# EAGLE library part USB-A-FEMALE (library my_con)
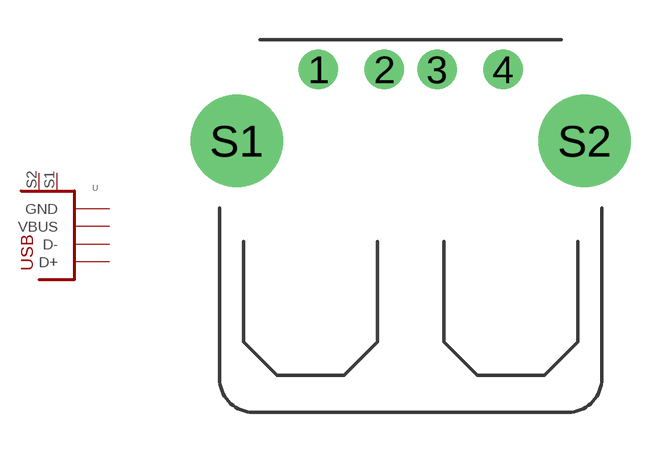
[diagram p5: symbol with the pads of USB-TYPE-A-FEMALE; footprint USB-TYPE-A-FEMALE]

Designator prefix -

## USB-A-FEMALE  [USB-TYPE-A-FEMALE]
1  VBUS
2  D-
3  D+
4  GND
S1  S1
S2  S2

## Footprint USB-TYPE-A-FEMALE (pad centres in mm)
drill 0.8 pad 1.5: 1 -3.5,2.71; 2 -1,2.71; 3 1,2.71; 4 3.5,2.71
drill 2.5: S1 -6.6,0; S2 6.6,0